# EAGLE library part 418121160809 (library EAGLE-TACT_SWITCHES-rev17c)
2.54 mm small compact SMD flat actuator with top tape WS-DISV,18 pins,9 poles <http://katalog.we-online.de/media/images/v2/Family_WS_IC_4181211608xx_pf2.jpg> Details see: http://katalog.we-online.de/en/em/DISV_2_54_SMALL_COMPACT_SMD_FLAT_ACTUATOR Updated:2017-04-14 2017 (C) Wurth Elektronik
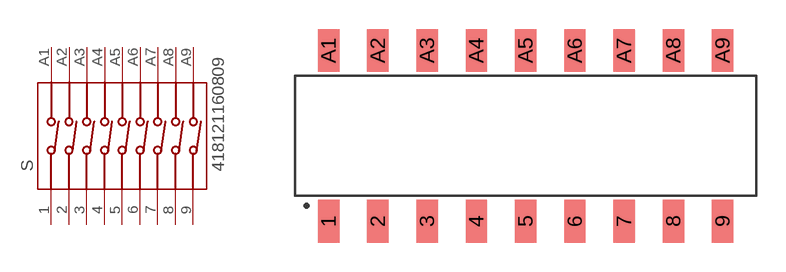
[diagram p30: symbol with the pads of 418121160809; footprint 418121160809]

Designator prefix S

## 418121160809  [418121160809]
1  1  pas
2  2  pas
3  3  pas
4  4  pas
5  5  pas
6  6  pas
7  7  pas
8  8  pas
9  9  pas
A1  A1  pas
A2  A2  pas
A3  A3  pas
A4  A4  pas
A5  A5  pas
A6  A6  pas
A7  A7  pas
A8  A8  pas
A9  A9  pas

## Footprint 418121160809 (pad centres in mm)
WS-IC-2.54 mm small compact SMD Dip Switch with top tape,18 pins,9 poles
smd 1.1 x 2.2: 1 -10.16,-4.4; 2 -7.62,-4.4; 3 -5.08,-4.4; 4 -2.54,-4.4; 5 0,-4.4; 6 2.54,-4.4; 7 5.08,-4.4; 8 7.62,-4.4; 9 10.16,-4.4; A1 -10.16,4.4; A2 -7.62,4.4; A3 -5.08,4.4; A4 -2.54,4.4; A5 0,4.4; A6 2.54,4.4; A7 5.08,4.4; A8 7.62,4.4; A9 10.16,4.4